# EAGLE library part TORXIS_SERVO_DRIVER (library MRDT-RoboticArm)
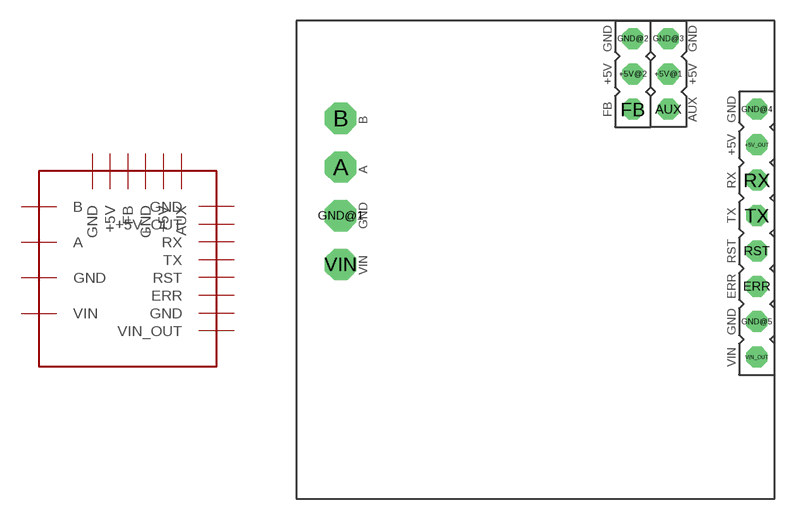
[diagram p0: symbol with the pads of TORXIS_SERVO_DRIVER; footprint TORXIS_SERVO_DRIVER]

Designator prefix -

## TORXIS_SERVO_DRIVER  [TORXIS_SERVO_DRIVER]
+5V@1  +5V
+5V@2  +5V
+5V_OUT  +5V_OUT
A  A
AUX  AUX
B  B
ERR  ERR
FB  FB
GND@1  GND
GND@2  GND
GND@3  GND
GND@4  GND
GND@5  GND
RST  RST
RX  RX
TX  TX
VIN  VIN
VIN_OUT  VIN_OUT

## Footprint TORXIS_SERVO_DRIVER (pad centres in mm)
drill 1 octagon: +5V@1 26.67,30.48; +5V@2 24.13,30.48; +5V_OUT 33.02,25.4; AUX 26.67,27.94; ERR 33.02,15.24; FB 24.13,27.94; GND@2 24.13,33.02; GND@3 26.67,33.02; GND@4 33.02,27.94; GND@5 33.02,12.7; RST 33.02,17.78; RX 33.02,22.86; TX 33.02,20.32; VIN_OUT 33.02,10.16
drill 1.5 octagon: A 3.172,23.801; B 3.172,27.301; GND@1 3.172,20.301; VIN 3.172,16.801